# Altium footprint library PcbLib1.PcbLib: 15 footprints
Each footprint in its own frame and in the unit in brackets; x right, y up, seen from the top. Pads: shape width x height; smd on the part's side, far side on the other; paste and mask are expansions set on the pad; w line width, h text height; cw(c..) or ccw(c..) is an arc to the next point about the centre after c.
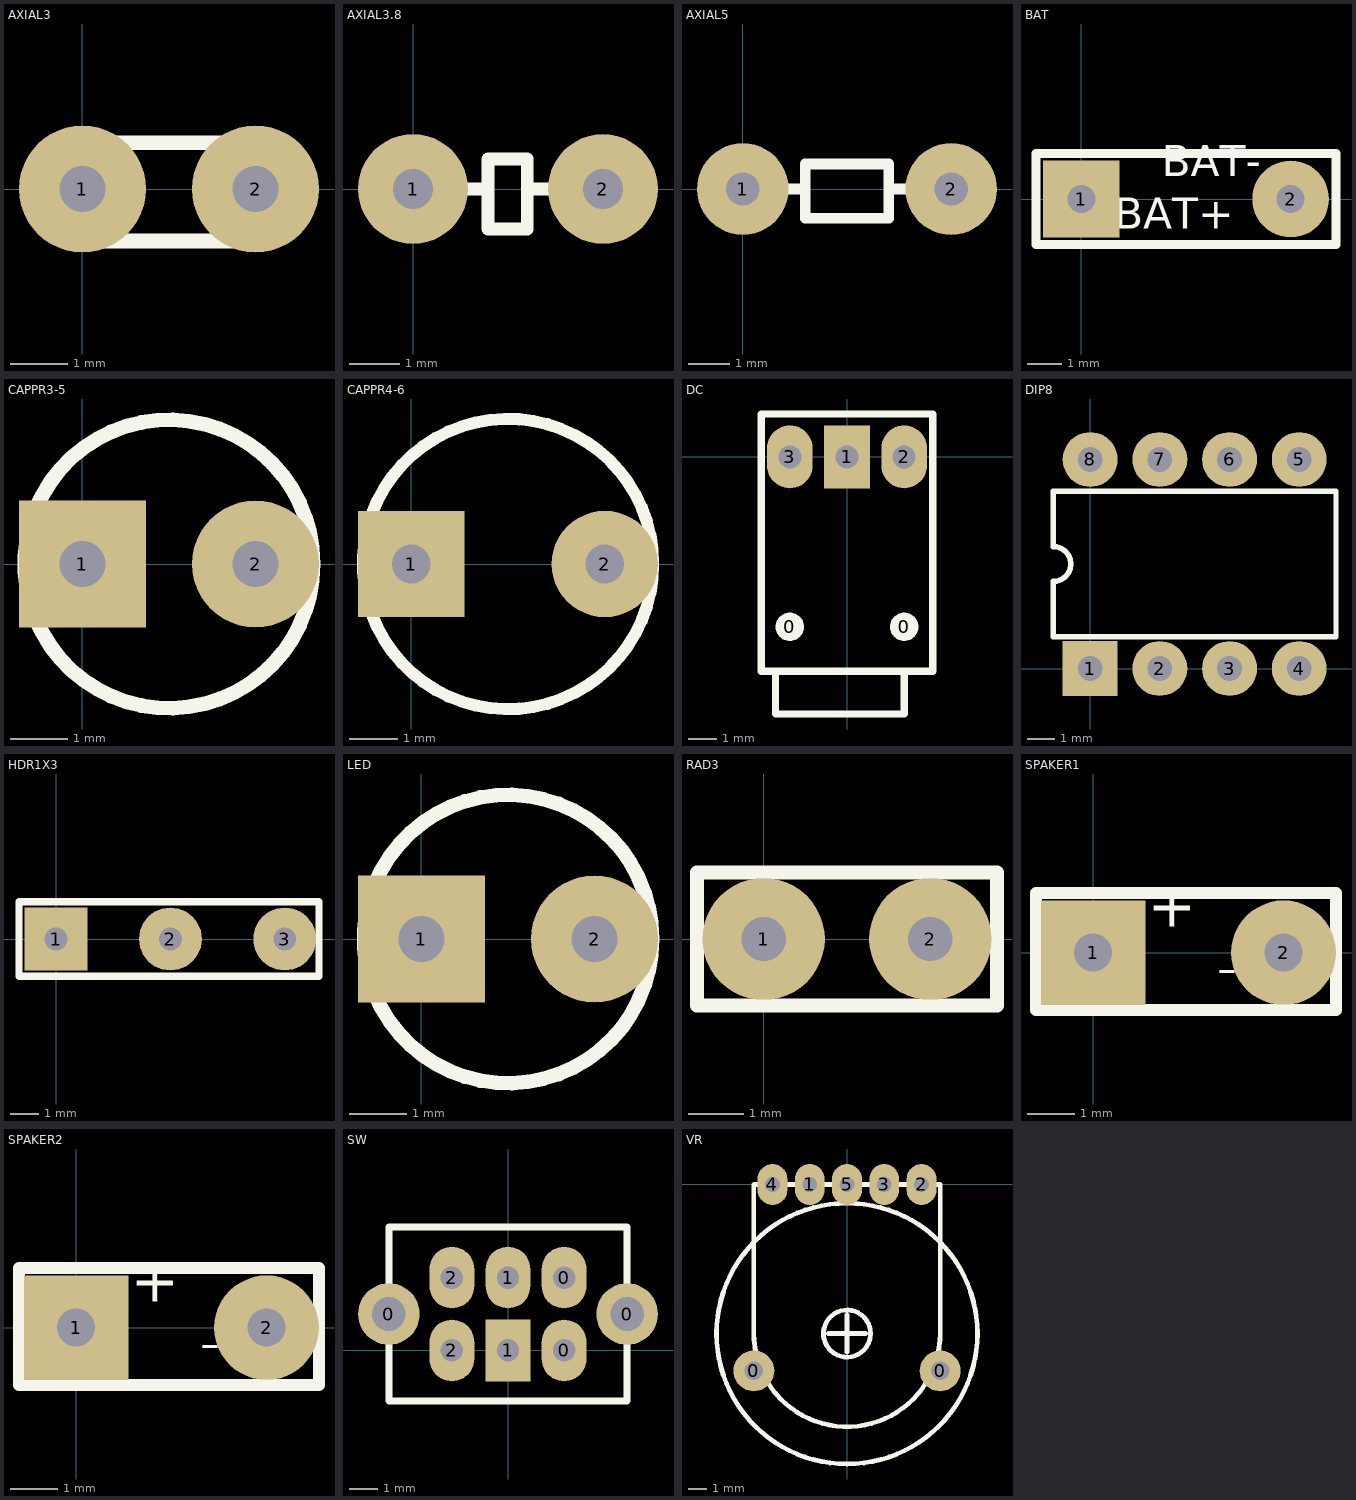
[diagram p0: the footprints below, top view; thin cyan lines are the x and y axes]

## AXIAL3 [mm]
pads (2):
  round 2.2 hole 0.8: 1(0,0) 2(3,0)
Top Overlay:
  lines w0.254: 0,-0.9 3,-0.9 ; 0,0.8 3,0.8

## AXIAL3.8 [mm]
pads (2):
  round 2.2 hole 0.8: 1(0,0) 2(3.8,0)
Top Overlay:
  lines w0.254: 0.8,0 1.5,0 ; 2.283,0 2.9,0 ; 1.5,-0.8 2.283,-0.8 2.283,0.6 1.5,0.6 1.5,-0.8

## AXIAL5 [mm]
pads (2):
  round 2.2 hole 0.8: 1(0,0) 2(5,0)
Top Overlay:
  lines w0.254: 0.8,0 1.5,0 ; 3.5,0 4.1,0 ; 1.5,-0.7 1.5,0.6 3.5,0.6 3.5,-0.7 1.5,-0.7

## BAT [mm]
pads (2):
  rect 2.2x2.2 hole 0.8: 1(0,0)
  round 2.2 hole 0.8: 2(6,0)
Top Overlay:
  lines w0.254: -1.3,-1.3 7.3,-1.3 7.3,1.3 -1.3,1.3 -1.3,-1.3
  text "BAT-" at 2.3,0.35 h1.52
  text "BAT+" at 0.95,-1.15 h1.52

## CAPPR3-5 [mm]
pads (2):
  rect 2.2x2.2 hole 0.8: 1(0,0)
  round 2.2 hole 0.8: 2(3,0)
Top Overlay:
  circle w0.254: c1.5,0 r2.5

## CAPPR4-6 [mm]
pads (2):
  rect 2.2x2.2 hole 0.8: 1(0,0)
  round 2.2 hole 0.8: 2(4,0)
Top Overlay:
  circle w0.25: c2,0 r3

## DC [mm]
pads (5):
  round 1 on Top Overlay: 0(-2,-5.95) 0(2,-5.95)
  rect 1.6x2.2 hole 0.8: 1(0,0)
  oval 1.6x2.2 hole 0.8: 2(2,0) 3(-2,0)
Top Overlay:
  lines w0.254: -2.5,-7.5 -2.5,-9 2,-9 2,-7.5 ; -3,-7.5 3,-7.5 3,1.5 -3,1.5 -3,-7.5

## DIP8 [mm]
pads (8):
  rect 2x2 hole 0.9: 1(0,0)
  round 2 hole 0.9: 2(2.54,0) 3(5.08,0) 4(7.62,0) 5(7.62,7.62) 6(5.08,7.62) 7(2.54,7.62) 8(0,7.62)
Top Overlay:
  lines w0.2: -1.34,1.16 -1.34,3.175 ccw(c-1.34,3.81) -1.34,4.445 -1.34,6.46 8.96,6.46 8.96,1.16 -1.34,1.16

## HDR1X3 [mm]
pads (3):
  rect 2.2x2.2 hole 0.8: 1(0,0)
  round 2.2 hole 0.8: 2(4,0) 3(8,0)
Top Overlay:
  lines w0.254: -1.3,-1.3 -1.3,1.3 9.2,1.3 9.2,-1.3 -1.3,-1.3

## LED [mm]
pads (2):
  rect 2.2x2.2 hole 0.8: 1(0,0)
  round 2.2 hole 0.8: 2(3,0)
Top Overlay:
  circle w0.25: c1.5,0 r2.5

## RAD3 [mm]
pads (2):
  round 2.2 hole 0.8: 1(0,0) 2(3,0)
Top Overlay:
  lines w0.254: -1.2,-1.2 4.2,-1.2 4.2,1.2 -1.2,1.2 -1.2,-1.2

## SPAKER1 [mm]
pads (2):
  rect 2.2x2.2 hole 0.8: 1(0,0)
  round 2.2 hole 0.8: 2(4,0)
Top Overlay:
  lines w0.254: -1.2,-1.2 5.1,-1.2 5.1,1.25 -1.2,1.25 -1.2,-1.2
  text "-" at 2.6,-1 h1.52
  text "+" at 1.15,0.25 h1.52

## SPAKER2 [mm]
pads (2):
  rect 2.2x2.2 hole 0.8: 1(0,0)
  round 2.2 hole 0.8: 2(4,0)
Top Overlay:
  lines w0.254: -1.2,-1.2 5.1,-1.2 5.1,1.25 -1.2,1.25 -1.2,-1.2
  text "-" at 2.6,-1 h1.52
  text "+" at 1.15,0.25 h1.52

## SW [mm]
pads (8):
  round 2.2 hole 1.2: 0(-4.25,1.3) 0(4.25,1.3)
  oval 1.6x2.2 hole 0.8: 0(2,0) 0(2,2.6) 1(0,2.6) 2(-2,0) 2(-2,2.6)
  rect 1.6x2.2 hole 0.8: 1(0,0)
Top Overlay:
  lines w0.254: -4.25,-1.8 4.25,-1.8 4.25,4.4 -4.25,4.4 -4.25,-1.8

## VR [mm]
pads (7):
  round 2.2 hole 1: 0(-5,-10) 0(5,-10)
  oval 1.6x2.2 hole 0.8: 1(-2,0) 2(4,0) 3(2,0) 4(-4,0) 5(0,0)
Top Overlay:
  circle w0.254: c0,-8 r7
  circle w0.254: c0,-8 r1.265
  lines w0.254: -1,-8 1,-8 ; 0,-9 0,-7 ; -5,-8 ccw(c0,-8) 5,-8 5,0 -5,0 -5,-8